# EAGLE library part FDD_CONN_EXT (library F030NG)
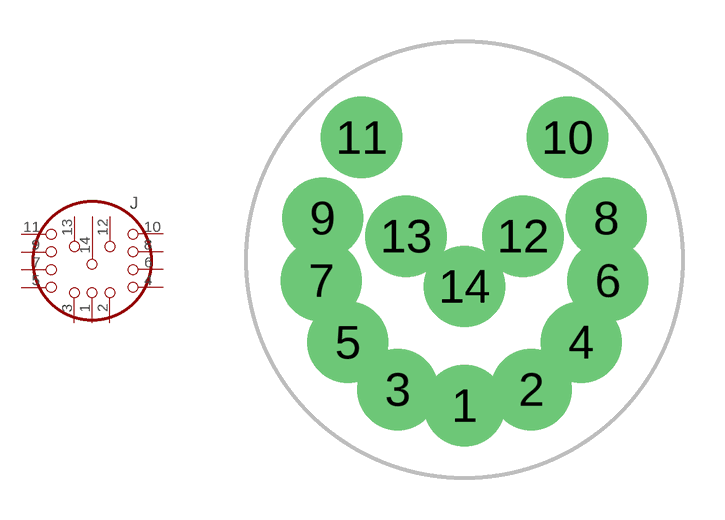
[diagram p92: symbol with the pads of 14P_DIN_PCB; footprint 14P_DIN_PCB]

Designator prefix J

## FDD_CONN_EXT  [14P_DIN_PCB]
1  1  pas
2  2  pas
3  3  pas
4  4  pas
5  5  pas
6  6  pas
7  7  pas
8  8  pas
9  9  pas
10  10  pas
11  11  pas
12  12  pas
13  13  pas
14  14  pas

## Footprint 14P_DIN_PCB (pad centres in mm)
drill 1.95 pad 2.3: 1 0,-5.25; 2 2.4,-4.67; 3 -2.4,-4.67; 4 4.2,-2.97; 5 -4.2,-2.97; 6 5.15,-0.75; 7 -5.15,-0.75; 8 5.1,1.5; 9 -5.1,1.5; 10 3.7,4.4; 11 -3.7,4.4; 12 2.1,0.85; 13 -2.1,0.85; 14 0,-0.96